# Altium schematic symbol library Connector.SchLib: 6 symbols
Pins are listed as number, name and electrical type; pins without a type are passive.

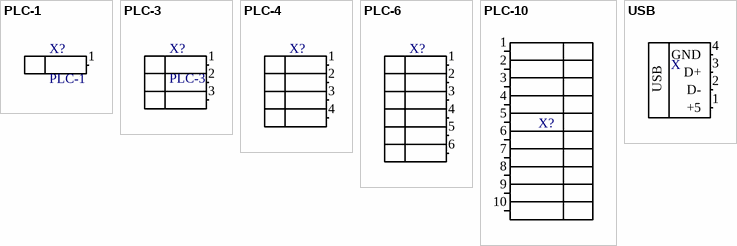
[diagram p0: symbols PLC-1 to USB]

## PLC-1
designator X?
footprint PLC-1
pins: 1

## PLC-3
designator X?
footprint PLC-3
pins: 1, 2, 3

## PLC-4
designator X?  (value not drawn)
footprint PLC-4
pins: 1, 2, 3, 4

## PLC-6
designator X?  (value not drawn)
footprint PLC-6
pins: 1, 2, 3, 4, 5, 6

## PLC-10
designator X?  (value not drawn)
footprint PLC-10
pins: 1, 2, 3, 4, 5, 6, 7, 8, 9, 10

## USB
designator X  (value not drawn)
footprint USB-ASM (DS1098-B)
pins: 1 +5, 2 D-, 3 D+, 4 GND